# Altium footprint library CAP1206.PcbLib: 1 footprints
Each footprint in its own frame and in the unit in brackets; x right, y up, seen from the top. Pads: shape width x height; smd on the part's side, far side on the other; paste and mask are expansions set on the pad; w line width, h text height; cw(c..) or ccw(c..) is an arc to the next point about the centre after c.
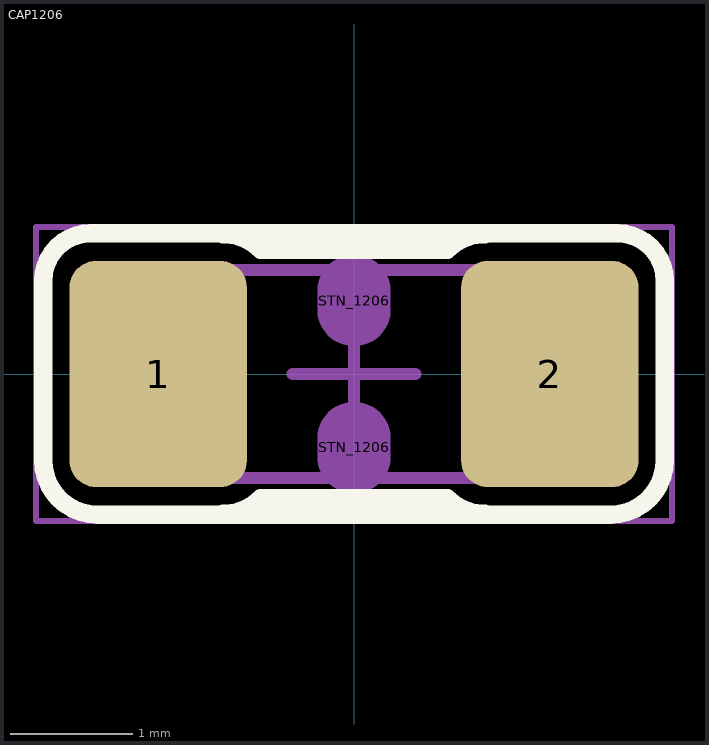
[diagram p0: the footprint, top view; thin cyan lines are the x and y axes]

## CAP1206 [mm] "Chip Capacitor, 2-Leads, Body 3/20x1/60mm, IPC Medium Density DESIGNER:ABBAS BASEREH"
height 0.94
pads (4):
  rrect30% 1.45x1.85 smd: 1(-1.6,0) 2(1.6,0)
  oval 0.6x0.75 on Mech2 mask+0: STN_1206(0,-0.6) STN_1206(0,0.6)
Top Overlay:
  lines w0.15: -1.069,-1.143 ccw(c-1.069,-0.709) -0.762,-1.016 0.762,-1.016 ccw(c1.069,-0.709) 1.069,-1.143 ; -1.069,1.143 cw(c-1.069,0.709) -0.762,1.016 0.762,1.016 cw(c1.069,0.709) 1.069,1.143 ; -2.54,-0.705 ccw(c-2.095,-0.705) -2.095,-1.15 -2,-1.15 2.095,-1.15 ccw(c2.095,-0.705) 2.54,-0.705 2.54,0.762 ccw(c2.152,0.762) 2.152,1.15 2,1.15 -2,1.15 -2.152,1.15 ccw(c-2.152,0.762) -2.54,0.762 -2.54,-0.705
Mechanical 13:
  lines w0.1: -1.6,-0.85 -1.6,0.85 1.6,0.85 1.6,-0.85 -1.6,-0.85
Mechanical 15:
  lines w0.05: -2.6,-1.2 -2.6,1.2 2.6,1.2 2.6,-1.2 -2.6,-1.2
  lines w0.1: -0.5,0 0.5,0 ; 0,-0.5 0,0.5
3D body "CAPC3216X10_M.step": height 1, standoff 0, extent -1.6,-0.85 1.6,0.85